# Altium schematic symbol library IC_ADV7123.SchLib: 1 symbol
Pins are listed as number, name and electrical type; pins without a type are passive.

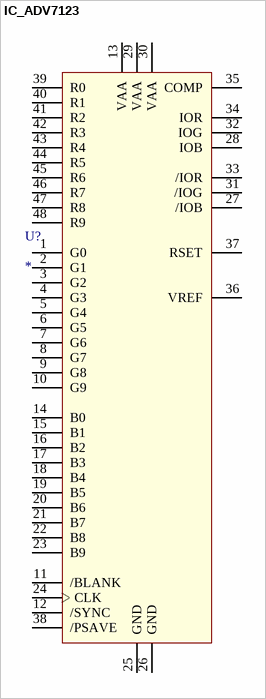
[diagram p0: symbol IC_ADV7123]

## IC_ADV7123
designator U?
pins: 1 G0, 2 G1, 3 G2, 4 G3, 5 G4, 6 G5, 7 G6, 8 G7, 9 G8, 10 G9, 11 /BLANK, 12 /SYNC, 13 VAA, 14 B0, 15 B1, 16 B2, 17 B3, 18 B4, 19 B5, 20 B6, 21 B7, 22 B8, 23 B9, 24 CLK, 25 GND, 26 GND, 27 /IOB, 28 IOB, 29 VAA, 30 VAA, 31 /IOG, 32 IOG, 33 /IOR, 34 IOR, 35 COMP, 36 VREF, 37 RSET, 38 /PSAVE, 39 R0, 40 R1, 41 R2, 42 R3, 43 R4, 44 R5, 45 R6, 46 R7, 47 R8, 48 R9